# Altium footprint library L_MSS1038.PcbLib: 1 footprints
Each footprint in its own frame and in the unit in brackets; x right, y up, seen from the top. Pads: shape width x height; smd on the part's side, far side on the other; paste and mask are expansions set on the pad; w line width, h text height; cw(c..) or ccw(c..) is an arc to the next point about the centre after c.
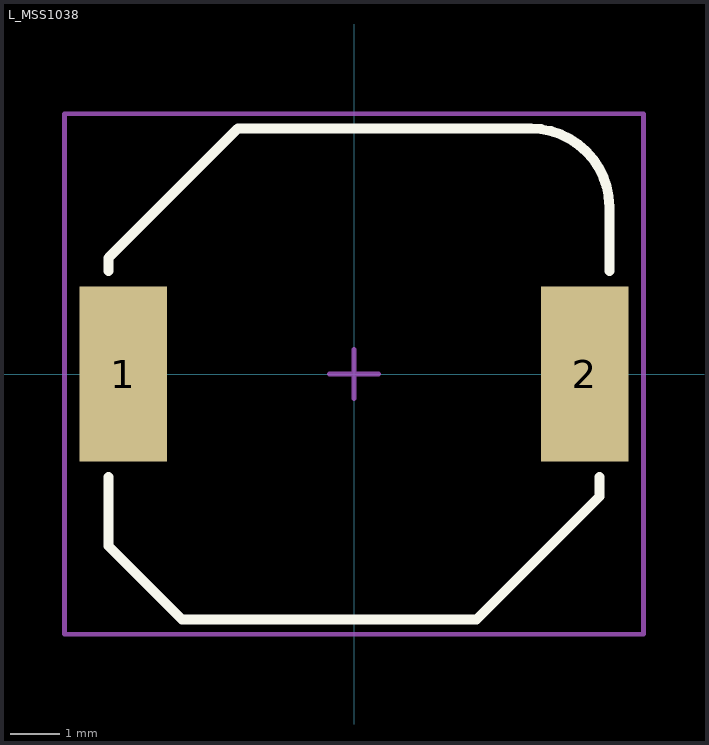
[diagram p0: the footprint, top view; thin cyan lines are the x and y axes]

## L_MSS1038 [mm] "Coilcraft MSS1038 SMT Inductor"
height 3.8
pads (2):
  rect 1.78x3.56 smd: 1(-4.7,0) 2(4.7,0)
Top Overlay:
  lines w0.203: -5,-2.1 -5,-3.5 -3.5,-5 0,-5 2.493,-5 5,-2.493 5,-2.1 ; -5,2.1 -5,2.366 -2.366,5 0,5 3.6,5 cw(c3.6,3.4) 5.2,3.4 5.2,2.1
Mechanical 15:
  lines w0.1: -0.5,0 0.5,0 ; 0,-0.5 0,0.5 ; -5.9,-5.3 -5.9,5.3 -2.5,5.3 5.9,5.3 5.9,-5.3 -5.9,-5.3
3D body "Coilcraft-MSS1038.step": height 3.91, standoff -0.09, extent -5.045,-5.1 5.255,5.1